# Altium schematic symbol library esp32_30p.SchLib: 2 symbols
Pins are listed as number, name and electrical type; pins without a type are passive.

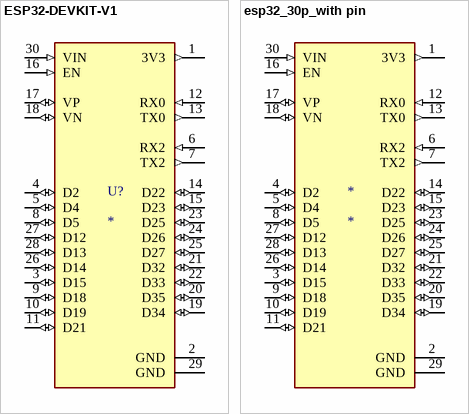
[diagram p0: symbols ESP32-DEVKIT-V1 to esp32_30p_with pin]

## ESP32-DEVKIT-V1
designator U?
Dual core, Wi-Fi: 2.4 GHz up to 150 Mbits/s,BLE (Bluetooth Low Energy) and legacy Bluetooth, 32 bits, Up to 240 MHz; MP: ESP32-DEVKIT-V1; MF: Do it; Price: None; Availability: Not in stock; Package: None; Value: *; SnapEDA_Link: https://www.snapeda.com/parts/ESP32-DEVKIT-V1/Do+it/view-part/?ref=snap; Check_prices: https://www.snapeda.com/parts/ESP32-DEVKIT-V1/Do+it/view-part/?ref=eda
footprint esp32_30p
pins: 1 3V3 (out), 2 GND (power), 3 D15 (io), 4 D2 (io), 5 D4 (io), 6 RX2 (in), 7 TX2 (out), 8 D5 (io), 9 D18 (io), 10 D19 (io), 11 D21 (io), 12 RX0 (in), 13 TX0 (out), 14 D22 (io), 15 D23 (io), 16 EN (in), 17 VP (io), 18 VN (io), 19 D34 (io), 20 D35 (io), 21 D32 (io), 22 D33 (io), 23 D25 (io), 24 D26 (io), 25 D27 (io), 26 D14 (io), 27 D12 (io), 28 D13 (io), 29 GND (power), 30 VIN (in)

## esp32_30p_with pin
designator *
footprint esp32_30p_with pin
pins: 1 3V3 (out), 2 GND (power), 3 D15 (io), 4 D2 (io), 5 D4 (io), 6 RX2 (in), 7 TX2 (out), 8 D5 (io), 9 D18 (io), 10 D19 (io), 11 D21 (io), 12 RX0 (in), 13 TX0 (out), 14 D22 (io), 15 D23 (io), 16 EN (in), 17 VP (io), 18 VN (io), 19 D34 (io), 20 D35 (io), 21 D32 (io), 22 D33 (io), 23 D25 (io), 24 D26 (io), 25 D27 (io), 26 D14 (io), 27 D12 (io), 28 D13 (io), 29 GND (power), 30 VIN (in)